# Altium footprint library BoardLib.PcbLib: 15 footprints
Each footprint in its own frame and in the unit in brackets; x right, y up, seen from the top. Pads: shape width x height; smd on the part's side, far side on the other; paste and mask are expansions set on the pad; w line width, h text height; cw(c..) or ccw(c..) is an arc to the next point about the centre after c.
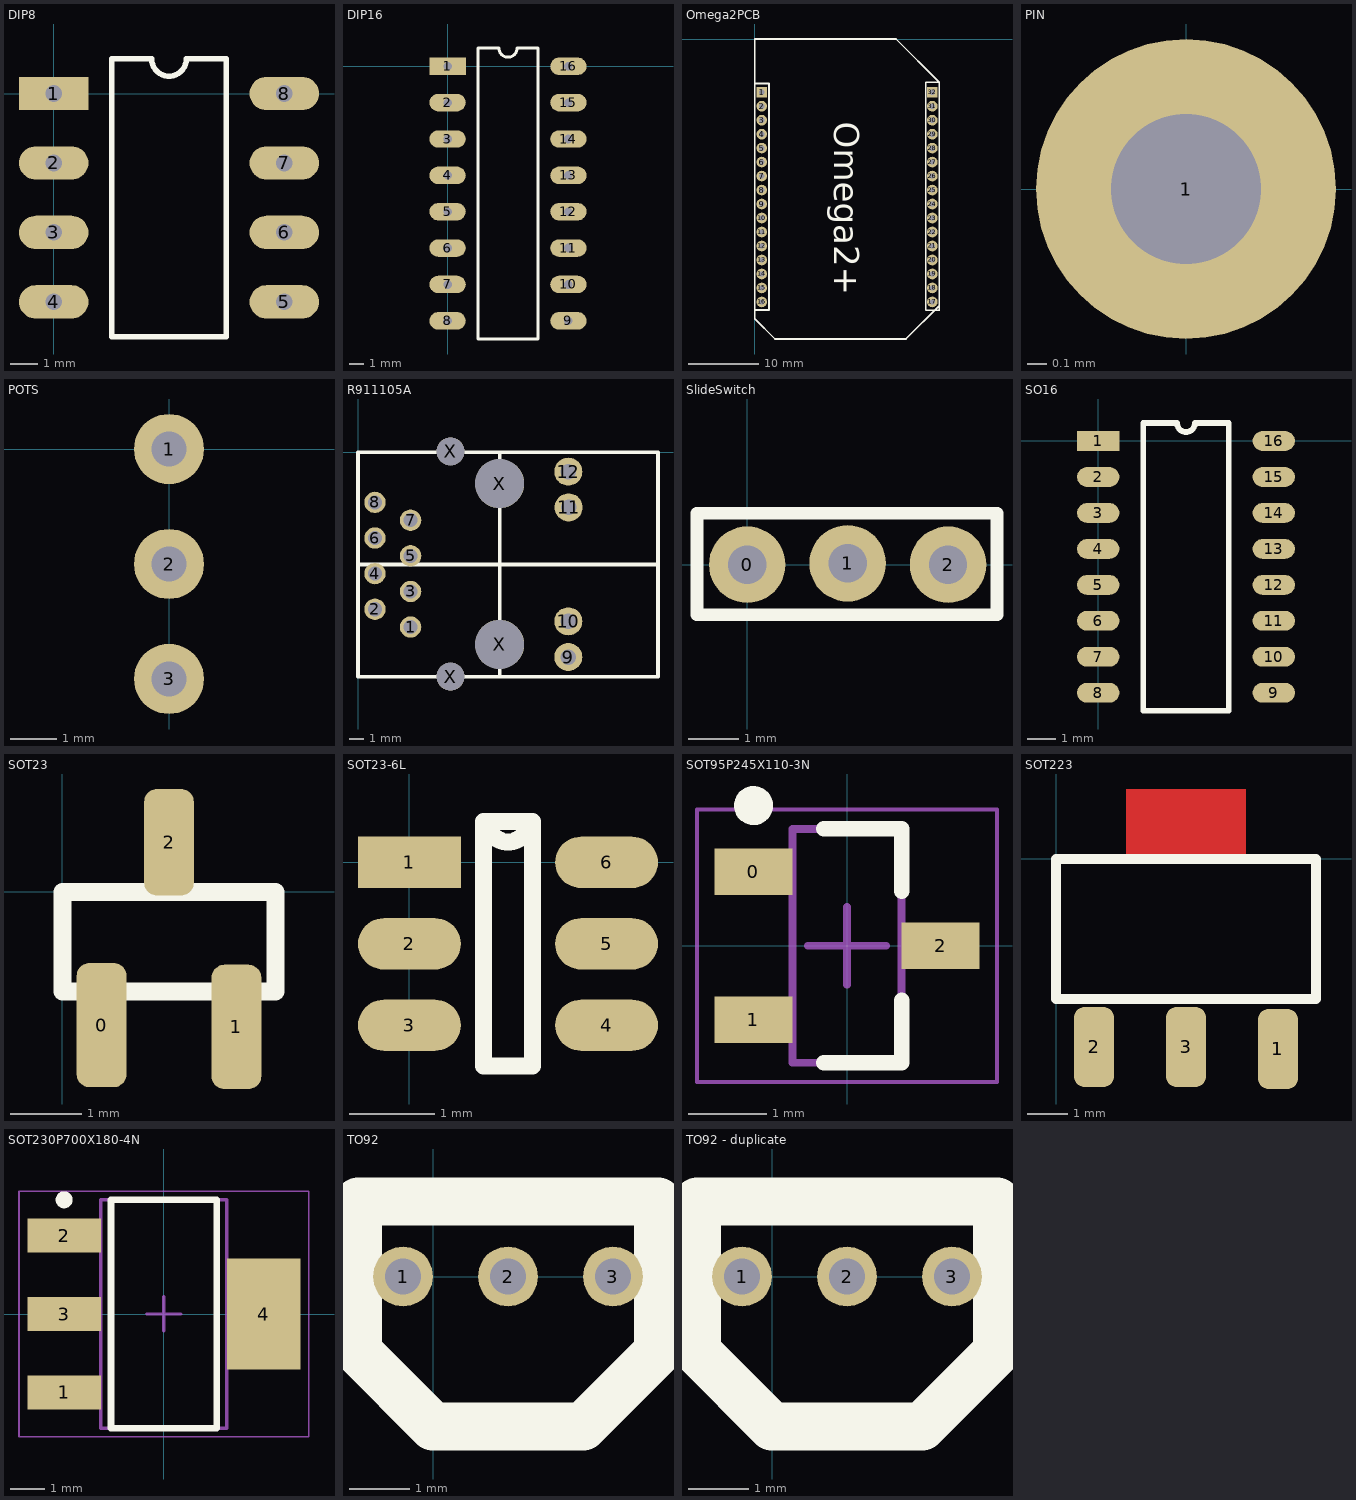
[diagram p0: the footprints below, top view; thin cyan lines are the x and y axes]

## DIP8 [mm]
pads (8):
  rect 2.5x1.2 hole 0.6: 1(0,0)
  oval 2.5x1.2 hole 0.6: 2(0,-2.5) 3(0,-5) 4(0,-7.5) 5(8.3,-7.5) 6(8.3,-5) 7(8.3,-2.5) 8(8.3,0)
Top Overlay:
  lines w0.2: 2.085,-8.75 2.085,1.25 3.525,1.25 ccw(c4.15,1.25) 4.775,1.25 6.215,1.25 6.215,-8.75 2.085,-8.75

## DIP16 [mm]
pads (16):
  rect 2.5x1.2 hole 0.6: 1(0,0)
  oval 2.5x1.2 hole 0.6: 2(0,-2.5) 3(0,-5) 4(0,-7.5) 5(0,-10) 6(0,-12.5) 7(0,-15) 8(0,-17.5) 9(8.3,-17.5) 10(8.3,-15) 11(8.3,-12.5) 12(8.3,-10) 13(8.3,-7.5) 14(8.3,-5) 15(8.3,-2.5) 16(8.3,0)
Top Overlay:
  lines w0.2: 2.085,-18.75 6.215,-18.75 6.215,1.25 4.775,1.25 cw(c4.15,1.25) 3.525,1.25 2.085,1.25 2.085,-18.75

## Omega2PCB [mil]
pads (32):
  rect 60x60 hole 30: 1(39.37,-299.21) 32(1000,-299.21)
  round 60 hole 30: 2(39.37,-377.95) 3(39.37,-456.69) 4(39.37,-535.43) 5(39.37,-614.17) 6(39.37,-692.91) 7(39.37,-771.65) 8(39.37,-850.39) 9(39.37,-929.13) 10(39.37,-1007.87) 11(39.37,-1086.61) 12(39.37,-1165.35) 13(39.37,-1244.09) 14(39.37,-1322.83) 15(39.37,-1401.57) 16(39.37,-1480.32) 17(1000,-1480.32) 18(1000,-1401.57) 19(1000,-1322.83) 20(1000,-1244.09) 21(1000,-1165.35) 22(1000,-1086.61) 23(1000,-1007.87) 24(1000,-929.13) 25(1000,-850.39) 26(1000,-771.65) 27(1000,-692.91) 28(1000,-614.17) 29(1000,-535.43) 30(1000,-456.69) 31(1000,-377.95)
Top Overlay:
  lines w10: -0.39,-1526.38 79.92,-1526.38 79.92,-251.18 1.18,-251.18 ; 1039.37,-244.09 795.28,0 0,0 0,-1574.8 114.17,-1688.98 851.38,-1688.98 1039.37,-1500.98 1039.37,-244.09 ; 1039.37,-244.09 962.6,-244.09 962.6,-1527.17 1038.58,-1527.17 1039.37,-1526.38 1039.37,-244.09
  text "Omega2+" at 447.83,-466.54 h138.74

## PIN [mil]
pads (1):
  round 60 hole 30: 1(0,0)

## POTS [mil]
pads (3):
  round 60 hole 30: 1(0,0) 2(0,-98.43) 3(0,-196.85)

## R911105A [mm]
pads (16):
  round 1.524 hole 1: 1(3.75,-12.46) 2(1.21,-11.19) 3(3.75,-9.92) 4(1.21,-8.65) 5(3.75,-7.38) 6(1.21,-6.11) 7(3.75,-4.84) 8(1.21,-3.57)
  round 2 hole 1.1: 9(15,-14.6) 10(15,-12.05) 11(15.025,-3.925) 12(15,-1.375)
  round 2 hole 2: X(6.6,-16) X(6.6,0.075)
  round 3.5 hole 3.5: X(10.1,-13.7) X(10.1,-2.225)
Top Overlay:
  lines w0.254: 0,-8 21.4,-8 ; 10.1,-15.975 10.1,0 ; 0,-16 21.4,-16 21.4,0 0,0 0,-16

## SlideSwitch [mil]
pads (3):
  round 60 hole 30: 0(0,0) 1(78.74,0.98) 2(157.48,0)
Top Overlay:
  lines w10: 195.87,40.35 195.87,-39.37 -39.37,-39.37 -39.37,40.35 195.87,40.35 ; 195.87,40.35 195.87,40.35

## SO16 [mm]
pads (16):
  rect 1.5x0.7 smd: 1(0,0)
  oval 1.5x0.7 smd: 2(0,-1.27) 3(0,-2.54) 4(0,-3.81) 5(0,-5.08) 6(0,-6.35) 7(0,-7.62) 8(0,-8.89) 9(6.2,-8.89) 10(6.2,-7.62) 11(6.2,-6.35) 12(6.2,-5.08) 13(6.2,-3.81) 14(6.2,-2.54) 15(6.2,-1.27) 16(6.2,0)
Top Overlay:
  lines w0.2: 1.585,-9.525 4.615,-9.525 4.615,0.635 3.417,0.635 cw(c3.1,0.635) 2.782,0.635 1.585,0.635 1.585,-9.525

## SOT23 [mm]
pads (3):
  rrect50% 0.7x1.75 smd: 0(0.55,-1.875) 1(2.45,-1.9)
  rrect50% 0.7x1.5 smd: 2(1.5,0.7)
Top Overlay:
  lines w0.254: 0,-1.4 0,0 3,0 3,-1.4 0,-1.4

## SOT23-6L [mm]
pads (6):
  rect 1.2x0.6 smd: 1(0,0)
  oval 1.2x0.6 smd: 2(0,-0.95) 3(0,-1.9) 4(2.3,-1.9) 5(2.3,-0.95) 6(2.3,0)
Top Overlay:
  lines w0.2: 0.865,-2.375 0.865,0.475 1.388,0.475 cw(c1.15,0.475) 0.913,0.475 1.435,0.475 1.435,-2.375 0.865,-2.375

## SOT95P245X110-3N [mm] "SOT23, 3-Leads, Body 2,90x2,45mm, Pitch 0,95mm, IPC Medium Density"
height 1.1
pads (3):
  rect 1x0.6 smd: 0(-1.2,0.95) 1(-1.2,-0.95) 2(1.2,0)
Top Overlay:
  circle w0.25: c-1.2,1.8 r0.125
  lines w0.2: -0.3,-1.5 0.7,-1.5 0.7,-0.7 ; -0.3,1.5 0.7,1.5 0.7,0.7
Mechanical 13:
  lines w0.1: -0.7,-1.5 -0.7,1.5 0.7,1.5 0.7,-1.5 -0.7,-1.5
Mechanical 15:
  lines w0.05: -1.925,-1.75 -1.925,1.75 1.925,1.75 1.925,-1.75 -1.925,-1.75
  lines w0.1: -0.5,0 0.5,0 ; 0,-0.5 0,0.5
3D body: height 1.1, standoff 0.05, extent -0.7,-1.5 0.7,1.5

## SOT223 [mm]
pads (3):
  rrect50% 1x2 smd: 1(5.55,-4.75) 2(0.95,-4.7) 3(3.25,-4.7)
Top Layer:
  rectangle: 1.75,0 4.75,1.75
Top Overlay:
  lines w0.254: 0,-3.5 6.5,-3.5 6.5,0 0,0 0,-3.5

## SOT230P700X180-4N [mm] "SOT223, 4-Leads, Body 6,50x7,00mm (avg), Pitch 2,30mm, IPC Medium Density"
height 1.8
pads (4):
  rect 2.15x1 smd: 1(-2.925,-2.3) 2(-2.925,2.3) 3(-2.925,0)
  rect 2.15x3.25 smd: 4(2.925,0)
Top Overlay:
  circle w0.25: c-2.925,3.35 r0.125
  lines w0.2: -1.55,-3.35 1.55,-3.35 1.55,3.35 -1.55,3.35 -1.55,-3.35
Mechanical 13:
  lines w0.1: -1.85,-3.35 1.85,-3.35 1.85,3.35 -1.85,3.35 -1.85,-3.35
Mechanical 15:
  lines w0.05: -4.25,-3.6 4.25,-3.6 4.25,3.6 -4.25,3.6 -4.25,-3.6
  lines w0.1: -0.5,0 0.5,0 ; 0,-0.5 0,0.5
3D body: height 1.8, standoff 0.02, extent -1.85,-3.35 1.85,3.35

## TO92 [mm]
pads (3):
  round 1 hole 0.6: 1(-0.5,0) 2(1.25,0) 3(3,0)
Top Overlay:
  lines w0.8: -1.25,-1.25 0,-2.5 2.5,-2.5 3.75,-1.25 3.75,1.25 -1.25,1.25 -1.25,-1.25

## TO92 - duplicate [mm]
pads (3):
  round 1 hole 0.6: 1(-0.5,0) 2(1.25,0) 3(3,0)
Top Overlay:
  lines w0.8: -1.25,-1.25 0,-2.5 2.5,-2.5 3.75,-1.25 3.75,1.25 -1.25,1.25 -1.25,-1.25